# EAGLE library part SMC (library WallE_Motor_Board)
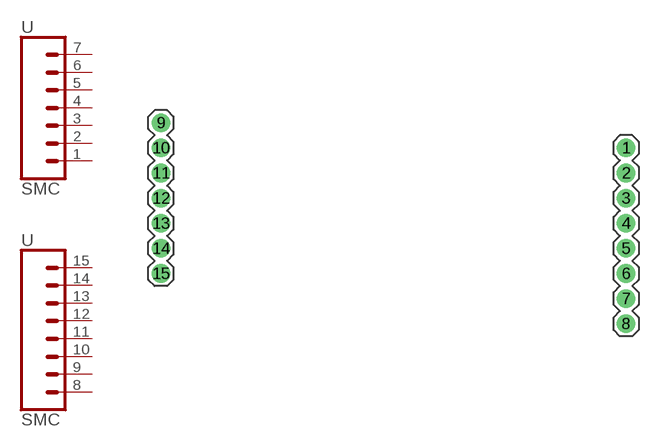
[diagram p1: symbol with the pads of SMC; footprint SMC]

Designator prefix -

## SMC  [SMC]
1  1  pas
2  2  pas
3  3  pas
4  4  pas
5  5  pas
6  6  pas
7  7  pas
8  8  pas
9  9  pas
10  10  pas
11  11  pas
12  12  pas
13  13  pas
14  14  pas
15  15  pas

## Footprint SMC (pad centres in mm)
drill 1.016 pad 1.88: 1 0,0; 2 0,-2.54; 3 0,-5.08; 4 0,-7.62; 5 0,-10.16; 6 0,-12.7; 7 0,-15.24; 8 0,-17.78; 9 -46.99,2.54; 10 -46.99,0; 11 -46.99,-2.54; 12 -46.99,-5.08; 13 -46.99,-7.62; 14 -46.99,-10.16; 15 -46.99,-12.7